# Altium footprint library SensorStatic.PcbLib: 2 footprints
Each footprint in its own frame and in the unit in brackets; x right, y up, seen from the top. Pads: shape width x height; smd on the part's side, far side on the other; paste and mask are expansions set on the pad; w line width, h text height; cw(c..) or ccw(c..) is an arc to the next point about the centre after c.
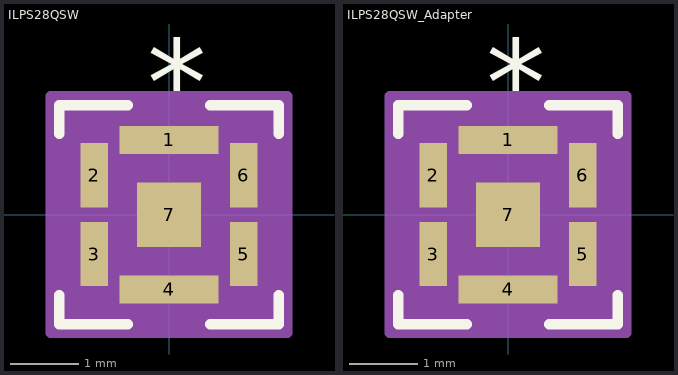
[diagram p0: the footprints below, top view; thin cyan lines are the x and y axes]

## ILPS28QSW [mil]
pads (7):
  rect 57x16 smd paste-28.5 mask-28.5: 1(0,43) 4(0,-43)
  rect 16x37 smd paste+0 mask+0: 2(-43,22.64) 3(-43,-22.64) 5(43,-22.64) 6(43,22.64)
  rect 37x37 smd paste-18 mask+0: 7(0,0)
Top Overlay:
  lines w6: -63,-46.39 -63,-63 -23.75,-63 ; -63,46.39 -63,63 -23.75,63 ; 23.75,-63 63,-63 63,-46.39 ; 23.75,63 63,63 63,46.39
  text "*" at -12.5,51 h50
Mechanical 13:
  lines w1: -58,8 -8,58 ; -58,-58 58,-58 58,58 -58,58 -58,-58 ; -58,-41.14 -58,-4.14 -51,-4.14 -51,-41.14 -58,-41.14 ; -58,4.14 -58,41.14 -51,41.14 -51,4.14 -58,4.14 ; -18.5,-58 18.5,-58 18.5,-51 -18.5,-51 -18.5,-58 ; -18.5,51 18.5,51 18.5,58 -18.5,58 -18.5,51 ; 51,-41.14 58,-41.14 58,-4.14 51,-4.14 51,-41.14 ; 51,4.14 58,4.14 58,41.14 51,41.14 51,4.14
  text "*" at -12.5,10 h50
Mechanical 15:
  region: -28.5,-68 -68,-68 -68,-51.14 -68,51.14 -68,68 -28.5,68 28.5,68 68,68 68,51.14 68,-51.14 68,-68 28.5,-68
  lines w6: -68,-68 -68,-51.14 -68,51.14 -68,68 -28.5,68 28.5,68 68,68 68,51.14 68,-51.14 68,-68 28.5,-68 -28.5,-68 -68,-68
3D body "ILPS28QSWTR.stp": height 82.68, standoff 0, extent -55.11,-55.11 55.12,55.13

## ILPS28QSW_Adapter [mil]
pads (7):
  rect 57x16 smd paste-28.5 mask-28.5: 1(0,43) 4(0,-43)
  rect 16x37 smd paste+0 mask+0: 2(-43,22.64) 3(-43,-22.64) 5(43,-22.64) 6(43,22.64)
  rect 37x37 smd paste-18 mask+0: 7(0,0)
Top Overlay:
  lines w6: -63,-46.39 -63,-63 -23.75,-63 ; -63,46.39 -63,63 -23.75,63 ; 23.75,-63 63,-63 63,-46.39 ; 23.75,63 63,63 63,46.39
  text "*" at -12.5,51 h50
Mechanical 13:
  lines w1: -58,8 -8,58 ; -58,-58 58,-58 58,58 -58,58 -58,-58 ; -58,-41.14 -58,-4.14 -51,-4.14 -51,-41.14 -58,-41.14 ; -58,4.14 -58,41.14 -51,41.14 -51,4.14 -58,4.14 ; -18.5,-58 18.5,-58 18.5,-51 -18.5,-51 -18.5,-58 ; -18.5,51 18.5,51 18.5,58 -18.5,58 -18.5,51 ; 51,-41.14 58,-41.14 58,-4.14 51,-4.14 51,-41.14 ; 51,4.14 58,4.14 58,41.14 51,41.14 51,4.14
  text "*" at -12.5,10 h50
Mechanical 15:
  region: -28.5,-68 -68,-68 -68,-51.14 -68,51.14 -68,68 -28.5,68 28.5,68 68,68 68,51.14 68,-51.14 68,-68 28.5,-68
  lines w6: -68,-68 -68,-51.14 -68,51.14 -68,68 -28.5,68 28.5,68 68,68 68,51.14 68,-51.14 68,-68 28.5,-68 -28.5,-68 -68,-68
3D body "SensAdapter.STEP": height 334.65, standoff 0, extent -72.29,-198.7 82.29,195
3D body "ILPS28QSWTR.stp": height 82.68, standoff 0, extent -55.11,-55.11 55.12,55.13